# EAGLE library part JOYSTICK (library Modulo)
Thumb Joystick Joystick commonly found in PS2 controllers. Two pots and a select switch. Footprint proven. Spark Fun Electronics SKU : COM-09032
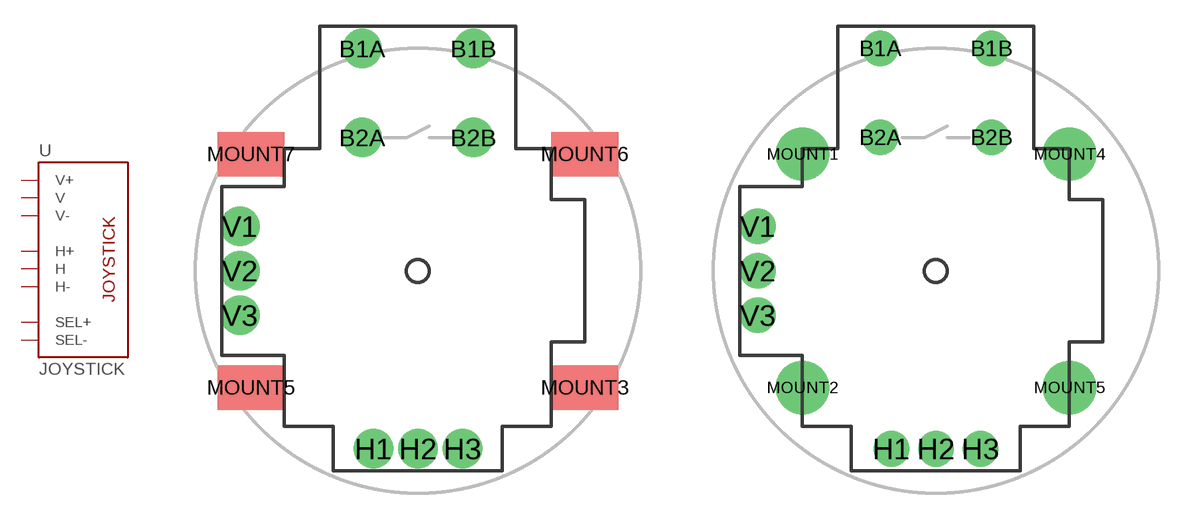
[diagram p4: symbol with the pads of JOYSTICK-MOUNTPADS; footprints JOYSTICK-MOUNTPADS, JOYSTICK]

Designator prefix U

## JOYSTICKSMD  [JOYSTICK-MOUNTPADS]
B1A  SEL+
B2A  SEL-
H1  H+
H2  H
H3  H-
V1  V+
V2  V
V3  V-

## JOYSTICK  [JOYSTICK]
Pads as for JOYSTICK-MOUNTPADS

## Footprint JOYSTICK-MOUNTPADS (pad centres in mm)
drill 1.5: B1A -3.175,12.7; B1B 3.175,12.7; B2A -3.175,7.62; B2B 3.175,7.62; H1 -2.54,-10.16; H2 0,-10.16; H3 2.54,-10.16; V1 -10.16,2.54; V2 -10.16,0; V3 -10.16,-2.54
smd 3.81 x 2.54: MOUNT3 9.525,-6.668; MOUNT5 -9.525,-6.668; MOUNT6 9.525,6.668; MOUNT7 -9.525,6.668

## Footprint JOYSTICK (pad centres in mm)
drill 1.27 pad 2.032: B1A -3.175,12.7; B1B 3.175,12.7; B2A -3.175,7.62; B2B 3.175,7.62; H1 -2.54,-10.16; H2 0,-10.16; H3 2.54,-10.16; V1 -10.16,2.54; V2 -10.16,0; V3 -10.16,-2.54
drill 1.778 pad 3.048: MOUNT1 -7.62,6.668; MOUNT2 -7.62,-6.668; MOUNT4 7.62,6.668; MOUNT5 7.62,-6.668